# EAGLE library part LSM303AGRTR (library Hexabitz)
Ultra-compact high-performance e-compass 3D accelerometer and 3D magnetometer module
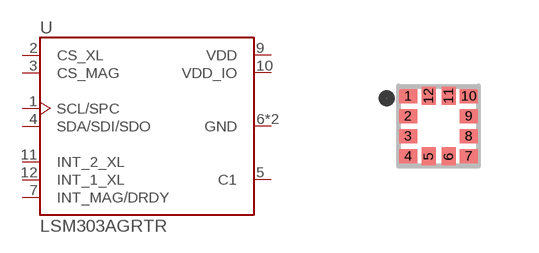
[diagram p12: symbol with the pads of LGA12R50P_200X200X100; footprint LGA12R50P_200X200X100]

Designator prefix U

## LSM303AGRTR (DESCRIPTION: Ultra-compact high-performance e-compass 3D accelerometer and 3D magnetometer module; MFN: STMicroelectronics; MPN: LSM303AGRTR; OCTOPART_ID: 497-16527-1-ND; OCTOPART_URL: https://www.digikey.com/product-detail/en/stmicroelectronics/LSM303AGRTR/497-16527-1-ND/6006105?utm_source=snapeda&utm_medium=aggregator&utm_campaign=symbol; PACKAGE: LGA-12 STMicroelectronics)  [LGA12R50P_200X200X100]
1  SCL/SPC
2  CS_XL  in
3  CS_MAG  in
4  SDA/SDI/SDO
5  C1  pas
6  GND  pwr
7  INT_MAG/DRDY  out
8  GND  pwr
9  VDD  pwr
10  VDD_IO  pwr
11  INT_2_XL  out
12  INT_1_XL  out

## Footprint LGA12R50P_200X200X100 (pad centres in mm)
smd 0.45 x 0.35: 1 -0.76,0.75; 2 -0.76,0.25; 3 -0.76,-0.25; 4 -0.76,-0.75; 7 0.76,-0.75; 8 0.76,-0.25; 9 0.76,0.25; 10 0.76,0.75
smd 0.35 x 0.45: 5 -0.25,-0.76; 6 0.25,-0.76; 11 0.25,0.76; 12 -0.25,0.76